# EAGLE library part 74LVC1G157GV,125 (library SamacSys_Parts)
Nexperia 74LVC1G157GV,125, Multiplexer Encoder, 2 to 1, 6-Pin SC-74 Source: Datasheet <https://assets.nexperia.com/documents/data-sheet/74LVC1G157.pdf>
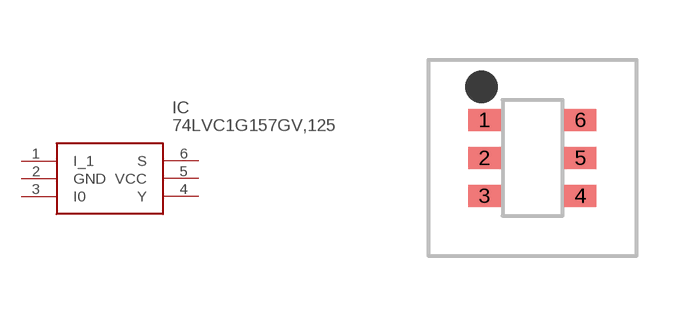
[diagram p172: symbol with the pads of 74LVC1G157GV125; footprint 74LVC1G157GV125]

Designator prefix IC

## 74LVC1G157GV,125 (DESCRIPTION: Nexperia 74LVC1G157GV,125, Multiplexer Encoder, 2 to 1, 6-Pin SC-74; HEIGHT: 1.1mm; MANUFACTURER_NAME: Nexperia; MANUFACTURER_PART_NUMBER: 74LVC1G157GV,125; MOUSER_PART_NUMBER: 771-74LVC1G157GV-G; MOUSER_PRICE-STOCK: https://www.mouser.co.uk/ProductDetail/Nexperia/74LVC1G157GV125?qs=me8TqzrmIYVvTEwYoevmpg%3D%3D)  [74LVC1G157GV125]
1  I_1
2  GND
3  I0
4  Y
5  VCC
6  S

## Footprint 74LVC1G157GV125 (pad centres in mm)
74LVC1G157GV,125-2
smd 0.8 x 0.55: 1 -1.2,0.95; 2 -1.2,0; 3 -1.2,-0.95; 4 1.2,-0.95; 5 1.2,0; 6 1.2,0.95